# Altium schematic symbol library SCH - DRIVER - LED - TI TLC59731D.SchLib: 1 symbol
Pins are listed as number, name and electrical type; pins without a type are passive.

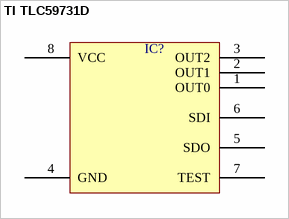
[diagram p0: symbol TI TLC59731D]

## TI TLC59731D
designator IC?  (value not drawn)
pins: 1 OUT0, 2 OUT1, 3 OUT2, 4 GND, 5 SDO, 6 SDI, 7 TEST, 8 VCC